# Altium footprint library PCB1.PcbLib: 20 footprints (part 1 of 2)
Each footprint in its own frame and in the unit in brackets; x right, y up, seen from the top. Pads: shape width x height; smd on the part's side, far side on the other; paste and mask are expansions set on the pad; w line width, h text height; cw(c..) or ccw(c..) is an arc to the next point about the centre after c.
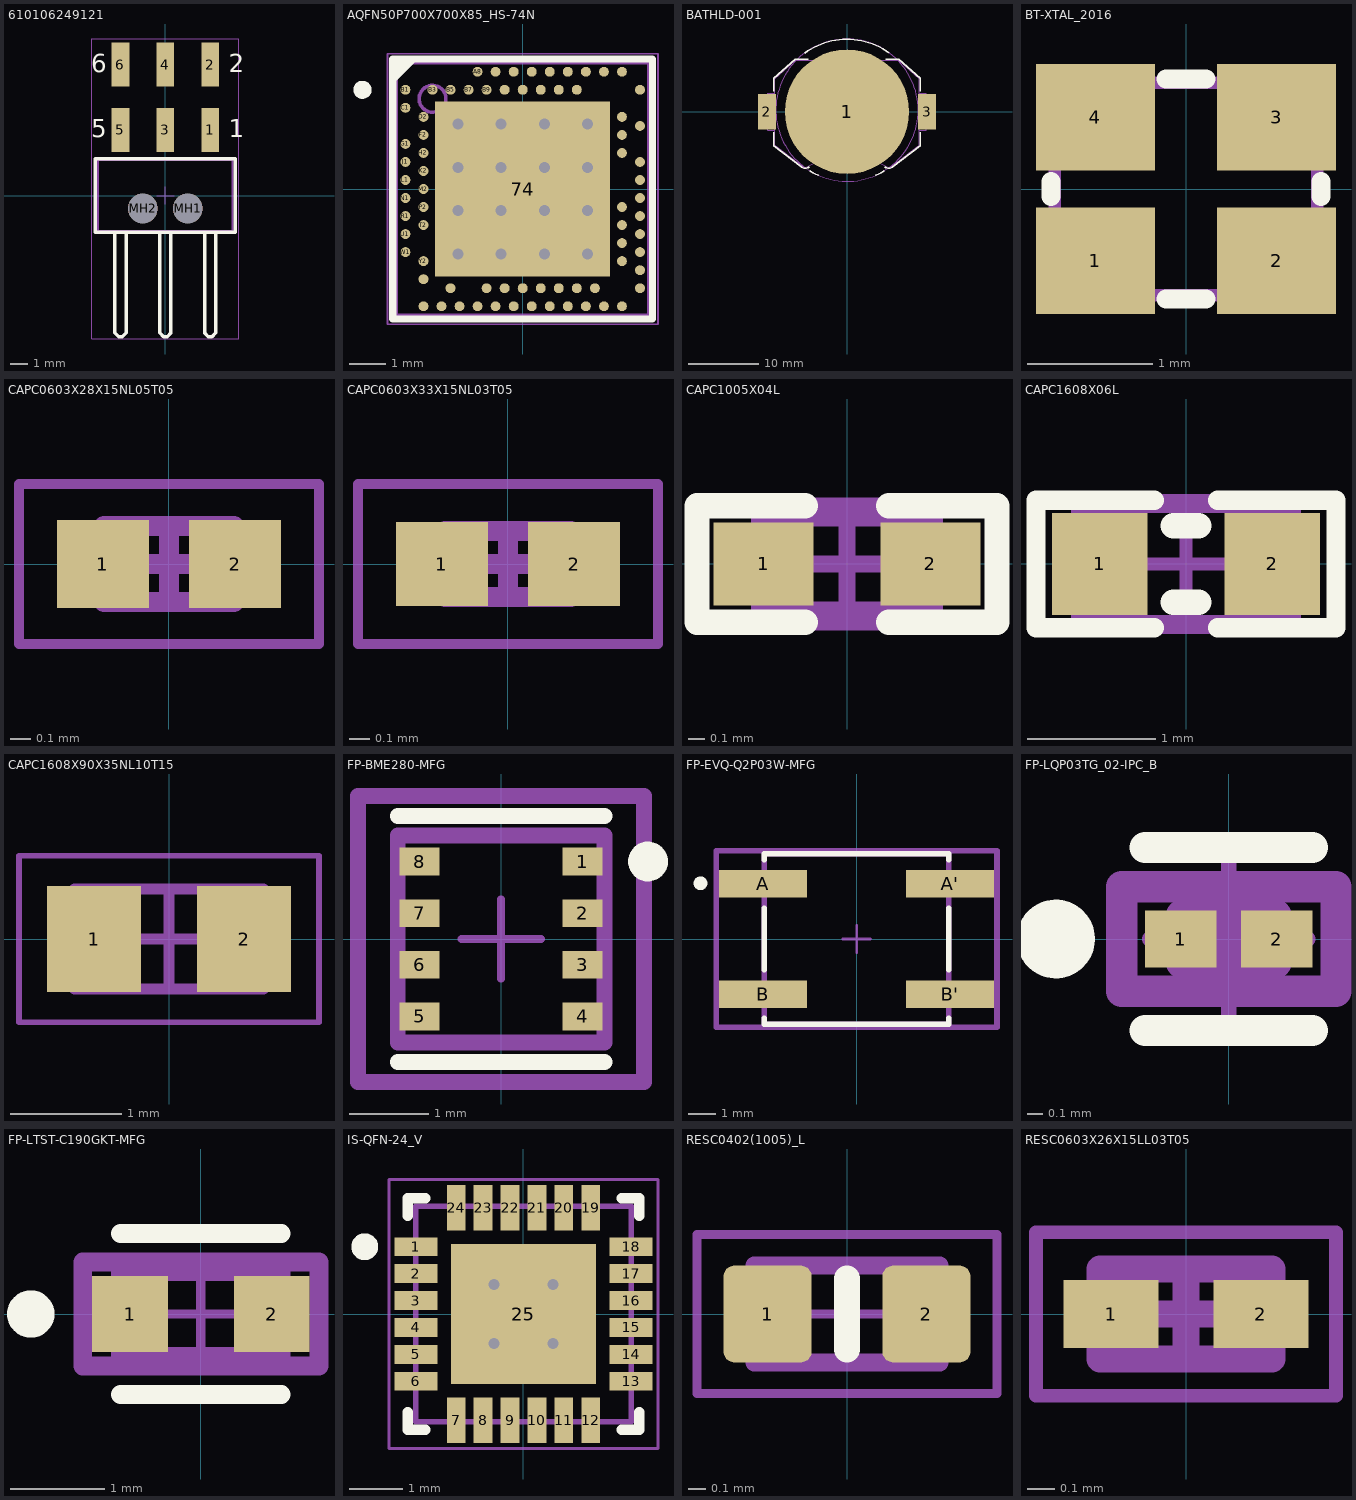
[diagram p0: the footprints below, top view; thin cyan lines are the x and y axes]

## 610106249121 [mm]
pads (8):
  rect 1x2.5 smd: 1(2.54,3.72) 2(2.54,7.42) 3(0,3.72) 4(0,7.42) 5(-2.54,3.72) 6(-2.54,7.42)
  round 1.68 hole 1.68 unplated: MH1(1.27,-0.73) MH2(-1.27,-0.73)
Top Overlay:
  lines w0.2: -2.86,-2.075 -2.86,-7.375 -2.86,-7.655 -2.86,-7.78 -2.64,-8 -2.44,-8 -2.22,-7.78 -2.22,-7.655 -2.22,-7.375 -2.22,-2.075 ; -0.32,-2.075 -0.32,-7.375 -0.32,-7.655 -0.32,-7.78 -0.1,-8 0.1,-8 0.32,-7.78 0.32,-7.655 0.32,-7.375 0.32,-2.075 ; 2.22,-2.075 2.22,-7.375 2.22,-7.655 2.22,-7.78 2.44,-8 2.64,-8 2.86,-7.78 2.86,-7.655 2.86,-7.375 2.86,-2.075 ; -3.96,-2.075 3.96,-2.075 3.96,2.075 -3.96,2.075 -3.96,-2.075
  text "1" at 3.6,3.3 h1.02
  text "2" at 3.6,7 h1.02
  text "5" at -4.2,3.3 h1.02
  text "6" at -4.2,7 h1.02
Top 3D Body:
  lines w0.1: -2.86,-2 -2.86,-7.375 -2.86,-7.655 -2.86,-7.78 -2.64,-8 -2.44,-8 -2.22,-7.78 -2.22,-7.655 -2.22,-7.375 -2.22,-2 ; -0.32,-2 -0.32,-7.375 -0.32,-7.655 -0.32,-7.78 -0.1,-8 0.1,-8 0.32,-7.78 0.32,-7.655 0.32,-7.375 0.32,-2 ; 2.22,-2 2.22,-7.375 2.22,-7.655 2.22,-7.78 2.44,-8 2.64,-8 2.86,-7.78 2.86,-7.655 2.86,-7.375 2.86,-2 ; -3.81,-2 -3.81,2 3.81,2 3.81,-2 -3.81,-2
Top Courtyard:
  lines w0.05: -0.5,0 0.5,0 ; 0,-0.5 0,0.5 ; -4.16,-8.125 4.16,-8.125 4.16,8.87 -4.16,8.87 -4.16,-8.125
3D body "610106249121.stp": height 5.1, standoff -1.38, extent -3.81,-8 3.81,8.16

## AQFN50P700X700X85_HS-74N [mm]
pads (74):
  rect 4.85x4.85 smd mask+0.05: 74(0,0)
  round 0.275 smd paste+0.012 mask+0.05: A8(-1.25,3.25) A10(-0.75,3.25) A12(-0.25,3.25) A14(0.25,3.25) A16(0.75,3.25) A18(1.25,3.25) A20(1.75,3.25) A22(2.25,3.25) A23(2.75,3.25) AA24(3.25,-2.25) AB2(-2.75,-2.5) AC5(-2,-2.75) AC9(-1,-2.75) AC11(-0.5,-2.75) AC13(0,-2.75) AC15(0.5,-2.75) AC17(1,-2.75) AC19(1.5,-2.75) AC21(2,-2.75) AC24(3.25,-2.75) AD2(-2.75,-3.25) AD4(-2.25,-3.25) AD6(-1.75,-3.25) AD8(-1.25,-3.25) AD10(-0.75,-3.25) AD12(-0.25,-3.25) AD14(0.25,-3.25) AD16(0.75,-3.25) AD18(1.25,-3.25) AD20(1.75,-3.25) AD22(2.25,-3.25) AD23(2.75,-3.25) B1(-3.25,2.75) B3(-2.5,2.75) B5(-2,2.75) B7(-1.5,2.75) B9(-1,2.75) B11(-0.5,2.75) B13(0,2.75) B15(0.5,2.75) B17(1,2.75) B19(1.5,2.75) B24(3.25,2.75) C1(-3.25,2.25) D2(-2.75,2) D23(2.75,2) E24(3.25,1.75) F2(-2.75,1.5) F23(2.75,1.5) G1(-3.25,1.25) H2(-2.75,1) H23(2.75,1) J1(-3.25,0.75) J24(3.25,0.75) K2(-2.75,0.5) L1(-3.25,0.25) L24(3.25,0.25) M2(-2.75,0) N1(-3.25,-0.25) N24(3.25,-0.25) P2(-2.75,-0.5) P23(2.75,-0.5) R1(-3.25,-0.75) R24(3.25,-0.75) T2(-2.75,-1) T23(2.75,-1) U1(-3.25,-1.25) U24(3.25,-1.25) V23(2.75,-1.5) W1(-3.25,-1.75) W24(3.25,-1.75) Y2(-2.75,-2) Y23(2.75,-2)
via 1.8,-1.8 diameter 0.61 hole 0.305
via 0.6,-1.8 diameter 0.61 hole 0.305
via -0.6,-1.8 diameter 0.61 hole 0.305
via -1.8,-1.8 diameter 0.61 hole 0.305
via 1.8,-0.6 diameter 0.61 hole 0.305
via 0.6,-0.6 diameter 0.61 hole 0.305
via -0.6,-0.6 diameter 0.61 hole 0.305
via -1.8,-0.6 diameter 0.61 hole 0.305
via 1.8,0.6 diameter 0.61 hole 0.305
via 0.6,0.6 diameter 0.61 hole 0.305
via -0.6,0.6 diameter 0.61 hole 0.305
via -1.8,0.6 diameter 0.61 hole 0.305
via 1.8,1.8 diameter 0.61 hole 0.305
via 0.6,1.8 diameter 0.61 hole 0.305
via -0.6,1.8 diameter 0.61 hole 0.305
via -1.8,1.8 diameter 0.61 hole 0.305
Top Overlay:
  circle w0.25: c-4.44,2.75 r0.125
  region: -3,3.5 -3.5,3 -3.5,3.5
  lines w0.2: -3.6,-3.6 3.6,-3.6 3.6,3.6 -3.6,3.6 -3.6,-3.6
Mechanical 7:
  circle w0.1: c-2.5,2.5 r0.373
  lines w0.1: -3.5,-3.5 -3.5,3.5 3.5,3.5 3.5,-3.5 -3.5,-3.5
  text ".Designator" at -0.178,-0.152 h0.3
Top Courtyard:
  lines w0.05: -3.75,-3.75 3.75,-3.75 3.75,3.75 -3.75,3.75 -3.75,-3.75
  lines w0.1: -0.5,0 0.5,0 ; 0,-0.5 0,0.5
3D body "LGA88C25P25X25_700X700X85.step": height 0.85, standoff 0, extent -3.55,-3.55 3.55,3.55

## BATHLD-001 [mm]
pads (3):
  round 17.78 smd: 1(0,0)
  rect 2.54x5.08 smd: 2(-11.43,0) 3(11.43,0)
Top Overlay:
  lines w0.2: -10.466,-2.94 -10.466,-4.853 -6.545,-7.854 ; -10.466,2.94 -10.466,4.785 -7.425,7.475 -5.515,7.476 ; -6.545,-7.854 ccw(c-5.97,-7.277) -5.561,-7.982 cw(c0.254,-19.539) -5.394,-7.899 ; -6.041,8.364 cw(c0,0.19) 5.977,8.411 ; -5.313,-8.454 ccw(c0,0.215) -4.054,-9.109 ; 4.054,-9.109 ccw(c0,0.215) 5.313,-8.454 ; 5.394,-7.899 cw(c-0.254,-19.539) 5.561,-7.982 ccw(c5.97,-7.277) 6.545,-7.854 ; 5.515,7.476 7.425,7.475 10.466,4.785 10.466,2.94 ; 6.545,-7.854 10.466,-4.853 ; 10.466,-4.852 10.466,-2.94
Mechanical 1:
  circle w0.1: c0,0.215 r10.168
Top 3D Body:
  lines w0.1: -10.326,-2.625 -11.316,-2.625 -11.316,-0.525 -10.316,-0.525 ; -10.316,0.525 -11.316,0.525 -11.316,2.625 -10.316,2.625 ; -6.038,-8.055 cw(c-0.031,-19.513) 6.013,-8.074 ; -6.038,-8.056 -10.316,-4.775 -10.316,4.725 -7.366,7.325 7.366,7.325 10.316,4.725 10.316,-4.775 6.013,-8.075 ; 10.316,-0.525 11.316,-0.525 11.316,-2.625 10.326,-2.625 ; 10.316,0.525 11.316,0.525 11.316,2.625 10.316,2.625
Top Courtyard:
  lines w0.1: -0.5,0 0.5,0 ; 0,-0.5 0,0.5
3D body: height 4, standoff 0, extent -10.168,-9.953 10.168,10.383
3D body: height 4.3, standoff 0, extent -10.317,-8.075 10.317,7.326

## BT-XTAL_2016 [mm]
pads (4):
  rect 0.95x0.85 smd: 1(-0.725,-0.575) 2(0.725,-0.575) 3(0.725,0.575) 4(-0.725,0.575)
Top Overlay:
  lines w0.152: -1.08,-0.06 -1.08,0.06 ; -0.16,-0.88 0.16,-0.88 ; -0.16,0.88 0.16,0.88 ; 1.08,-0.06 1.08,0.06
Mechanical 7:
  lines w0.1: -1.05,-0.85 1.05,-0.85 1.05,0.85 -1.05,0.85 -1.05,-0.85
  text ".Designator" at 0.248,0.177 h0.3
3D body: height 0.56, standoff 0.15, extent -0.7,-0.65 0.7,0.65
3D body "User Library-GeyerElectronics_KX5.step": height 0.56, standoff 0, extent -1.05,-0.85 1.05,0.85

## CAPC0603X28X15NL05T05 [mm]
pads (2):
  rect 0.46x0.44 smd: 1(-0.33,0) 2(0.33,0)
Top 3D Body:
  lines w0.1: -0.325,-0.19 0.325,-0.19 0.325,0.19 -0.325,0.19 -0.325,-0.19
Top Courtyard:
  lines w0.05: -0.75,-0.4 0.75,-0.4 0.75,0.4 -0.75,0.4 -0.75,-0.4
  lines w0.1: -0.19,0 0.19,0 ; 0,-0.19 0,0.19
3D body: height 0.28, standoff 0, extent 0.175,-0.19 0.325,0.19
3D body: height 0.28, standoff 0, extent -0.325,-0.19 -0.175,0.19
3D body: height 0.28, standoff 0, extent -0.175,-0.19 0.175,0.19

## CAPC0603X33X15NL03T05 [mm]
pads (2):
  rect 0.46x0.42 smd: 1(-0.33,0) 2(0.33,0)
Top 3D Body:
  lines w0.1: -0.315,-0.165 0.315,-0.165 0.315,0.165 -0.315,0.165 -0.315,-0.165
Top Courtyard:
  lines w0.05: -0.75,-0.4 0.75,-0.4 0.75,0.4 -0.75,0.4 -0.75,-0.4
  lines w0.1: -0.165,0 0.165,0 ; 0,-0.165 0,0.165
3D body: height 0.33, standoff 0, extent 0.165,-0.165 0.315,0.165
3D body: height 0.33, standoff 0, extent -0.315,-0.165 -0.165,0.165
3D body: height 0.33, standoff 0, extent -0.165,-0.165 0.165,0.165

## CAPC1005X04L [mm]
pads (2):
  rect 0.6x0.5 smd: 1(-0.5,0) 2(0.5,0)
Top Overlay:
  lines w0.152: -0.25,-0.35 -0.9,-0.35 -0.9,0.35 -0.25,0.35 ; 0.25,-0.35 0.9,-0.35 0.9,0.35 0.25,0.35
Mechanical 7:
  lines w0.1: -0.525,-0.275 -0.525,0.275 0.525,0.275 0.525,-0.275 -0.525,-0.275
  text ".Designator" at -0.261,-0.159 h0.3
Top Courtyard:
  lines w0.1: -0.275,0 0.275,0 ; 0,-0.275 0,0.275 ; -0.9,-0.35 0.9,-0.35 0.9,0.35 -0.9,0.35 -0.9,-0.35
3D body "User Library-0402(1005M) Cap.step": height 0.5, standoff -0.01, extent -0.508,-0.254 0.508,0.254

## CAPC1608X06L [mm]
pads (2):
  rect 0.75x0.8 smd: 1(-0.675,0) 2(0.675,0)
Top Overlay:
  lines w0.152: -0.25,-0.5 -1.175,-0.5 -1.175,0.5 -0.25,0.5 ; 0.25,-0.5 1.175,-0.5 1.175,0.5 0.25,0.5
  lines w0.2: -0.1,-0.3 0.1,-0.3 ; -0.1,0.3 0.1,0.3
Mechanical 7:
  lines w0.1: -0.85,-0.45 -0.85,0.45 0.85,0.45 0.85,-0.45 -0.85,-0.45
  text ".Designator" at 0.37,0.142 h0.3
Top Courtyard:
  lines w0.1: -0.45,0 0.45,0 ; 0,-0.45 0,0.45 ; -1.175,-0.5 1.175,-0.5 1.175,0.5 -1.175,0.5 -1.175,-0.5
3D body "User Library-Chip Capacitor 0603.step": height 0.8, standoff 0, extent -0.8,-0.43 0.8,0.43

## CAPC1608X90X35NL10T15 [mm]
pads (2):
  rect 0.85x0.95 smd: 1(-0.675,0) 2(0.675,0)
Top 3D Body:
  lines w0.1: -0.85,-0.45 -0.85,0.45 0.85,0.45 0.85,-0.45 -0.85,-0.45
Top Courtyard:
  lines w0.05: -1.35,-0.75 -1.35,0.75 1.35,0.75 1.35,-0.75 -1.35,-0.75
  lines w0.1: -0.45,0 0.45,0 ; 0,-0.45 0,0.45
3D body "CAPC1608X09N.step": height 0.9, standoff 0, extent -0.85,-0.45 0.85,0.45

## FP-BME280-MFG [mm]
pads (8):
  rect 0.5x0.35 smd paste+0 mask+0: 1(1.025,0.975) 2(1.025,0.325) 3(1.025,-0.325) 4(1.025,-0.975) 5(-1.025,-0.975) 6(-1.025,-0.325) 7(-1.025,0.325) 8(-1.025,0.975)
Top Overlay:
  circle w0.25: c1.85,0.975 r0.125
  lines w0.2: -1.3,-1.55 1.3,-1.55 ; -1.3,1.55 1.3,1.55
Top Assembly:
  lines w0.2: -1.8,-1.8 1.8,-1.8 1.8,1.8 -1.8,1.8 -1.8,-1.8
  text ".Designator" at 0,-0.001 h1
Top 3D Body:
  lines w0.2: -1.3,-1.3 1.3,-1.3 1.3,1.3 -1.3,1.3 -1.3,-1.3
Top Courtyard:
  lines w0.2: -1.8,-1.8 1.8,-1.8 1.8,1.8 -1.8,1.8 -1.8,-1.8
Top Component Center:
  lines w0.1: -0.5,0 0.5,0 ; 0,-0.5 0,0.5

## FP-EVQ-Q2P03W-MFG [mm]
pads (4):
  rect 3.2x1 smd paste+0 mask+0: A(-3.4,2) A'(3.4,2) B(-3.4,-2) B'(3.4,-2)
Top Overlay:
  circle w0.25: c-5.675,2.025 r0.125
  lines w0.2: -3.35,-2.875 -3.35,-3.1 3.35,-3.1 3.35,-2.875 ; -3.35,-1.125 -3.35,1.125 ; -3.35,2.875 -3.35,3.1 3.35,3.1 3.35,2.875 ; 3.35,-1.125 3.35,1.125
Top Assembly:
  lines w0.2: -5.1,-3.2 5.1,-3.2 5.1,3.2 -5.1,3.2 -5.1,-3.2
  text ".Designator" at 0,0.188 h1
Top 3D Body:
  lines w0.2: -3.35,-3.1 3.35,-3.1 3.35,3.1 -3.35,3.1 -3.35,-3.1
Top Courtyard:
  lines w0.2: -5.1,-3.2 5.1,-3.2 5.1,3.2 -5.1,3.2 -5.1,-3.2
Top Component Center:
  lines w0.1: -0.5,0 0.5,0 ; 0,-0.5 0,0.5
3D body "Switch_Panasonic_Electronic_Components_EVQ-Q2P03W_eec.STEP": height 0.25, standoff 0, extent -5.1,-3.2 5.1,3.2

## FP-LQP03TG_02-IPC_B [mm]
pads (2):
  rect 0.454x0.363 smd paste+0 mask+0: 1(-0.304,0) 2(0.304,0)
Top Overlay:
  circle w0.25: c-1.1,0 r0.125
  lines w0.2: -0.531,-0.581 0.531,-0.581 ; -0.531,0.581 0.531,0.581
Top Assembly:
  lines w0.2: -0.681,-0.331 -0.681,0.331 0.681,0.331 0.681,-0.331 -0.681,-0.331
  text ".Designator" at 0,-0.001 h1
Top 3D Body:
  lines w0.2: -0.3,-0.15 -0.3,0.15 0.3,0.15 0.3,-0.15 -0.3,-0.15
Top Courtyard:
  lines w0.2: -0.681,-0.331 -0.681,0.331 0.681,0.331 0.681,-0.331 -0.681,-0.331
Top Component Center:
  lines w0.1: -0.5,0 0.5,0 ; 0,-0.5 0,0.5
3D body "Ind_Murata_LQP03TN3N7BZ2J_eec.STEP": height 0.25, standoff 0, extent -0.681,-0.331 0.681,0.331

## FP-LTST-C190GKT-MFG [mm]
pads (2):
  rect 0.8x0.8 smd paste+0 mask+0: 1(-0.75,0) 2(0.75,0)
Top Overlay:
  circle w0.25: c-1.8,0 r0.125
  lines w0.2: -0.85,-0.85 0.85,-0.85 ; -0.85,0.85 0.85,0.85
Top Assembly:
  lines w0.2: -1.25,-0.55 1.25,-0.55 1.25,0.55 -1.25,0.55 -1.25,-0.55
  text ".Designator" at 0,-0.001 h1
Top 3D Body:
  lines w0.2: -0.85,-0.45 0.85,-0.45 0.85,0.45 -0.85,0.45 -0.85,-0.45
Top Courtyard:
  lines w0.2: -1.25,-0.55 1.25,-0.55 1.25,0.55 -1.25,0.55 -1.25,-0.55
Top Component Center:
  lines w0.1: -0.5,0 0.5,0 ; 0,-0.5 0,0.5
3D body "Diode_Lite-On_LTST-C190GKT_eec.STEP": height 0.25, standoff 0, extent -1.25,-0.55 1.25,0.55

## IS-QFN-24_V [mm]
pads (25):
  rect 0.8x0.35 smd: 1(-2,1.25) 2(-2,0.75) 3(-2,0.25) 4(-2,-0.25) 5(-2,-0.75) 6(-2,-1.25) 13(2,-1.25) 14(2,-0.75) 15(2,-0.25) 16(2,0.25) 17(2,0.75) 18(2,1.25)
  rect 0.35x0.85 smd mask+0.102: 7(-1.25,-1.975) 8(-0.75,-1.975) 9(-0.25,-1.975) 10(0.25,-1.975) 11(0.75,-1.975) 12(1.25,-1.975) 19(1.25,1.975) 20(0.75,1.975) 21(0.25,1.975) 22(-0.25,1.975) 23(-0.75,1.975) 24(-1.25,1.975)
  rect 2.7x2.6 smd: 25(0,0)
via -0.55,-0.55 diameter 0.5 hole 0.2
via 0.55,-0.55 diameter 0.5 hole 0.2
via 0.55,0.55 diameter 0.5 hole 0.2
via -0.55,0.55 diameter 0.5 hole 0.2
Top Overlay:
  circle w0.25: c-2.95,1.25 r0.125
  lines w0.2: -2.15,-1.825 -2.15,-2.15 -1.825,-2.15 ; -2.15,1.825 -2.15,2.15 -1.825,2.15 ; 1.825,-2.15 2.15,-2.15 2.15,-1.825 ; 1.825,2.15 2.15,2.15 2.15,1.825
Top 3D Body:
  lines w0.1: -2,-2 -2,2 2,2 2,-2 -2,-2
Top Courtyard:
  lines w0.05: -2.5,-2.5 2.5,-2.5 2.5,2.5 -2.5,2.5 -2.5,-2.5
  lines w0.1: -0.5,0 0.5,0 ; 0,-0.5 0,0.5
3D body: height 0.95, standoff 0, extent -1.999,-1.999 1.999,1.999

## RESC0402(1005)_L [mm]
pads (2):
  rrect25% 0.5x0.55 smd: 1(-0.45,0) 2(0.45,0)
Top Overlay:
  lines w0.15: 0,-0.2 0,0.2
Top Assembly:
  lines w0.1: -0.525,-0.275 -0.525,0.275 0.525,0.275 0.525,-0.275 -0.525,-0.275
Top Courtyard:
  lines w0.05: -0.275,0 0.275,0 ; 0,-0.275 0,0.275 ; -0.85,-0.45 -0.85,0.45 0.85,0.45 0.85,-0.45 -0.85,-0.45
Top Designator:
  text ".Designator" at -1.27,-0.127 h0.6
3D body "RES0402.step": height 0.3, standoff 0, extent -0.5,-0.25 0.5,0.25

## RESC0603X26X15LL03T05 [mm]
pads (2):
  rect 0.35x0.25 smd: 1(-0.275,0) 2(0.275,0)
Top 3D Body:
  lines w0.1: -0.315,-0.165 0.315,-0.165 0.315,0.165 -0.315,0.165 -0.315,-0.165
Top Courtyard:
  lines w0.05: -0.55,-0.3 0.55,-0.3 0.55,0.3 -0.55,0.3 -0.55,-0.3
  lines w0.1: -0.165,0 0.165,0 ; 0,-0.165 0,0.165
3D body: height 0.26, standoff 0, extent 0.165,-0.165 0.315,0.165
3D body: height 0.26, standoff 0, extent -0.315,-0.165 -0.165,0.165
3D body: height 0.26, standoff 0, extent -0.165,-0.165 0.165,0.165